# Altium footprint library triac.PCBLIB: 35 footprints (part 2 of 3)
Each footprint in its own frame and in the unit in brackets; x right, y up, seen from the top. Pads: shape width x height; smd on the part's side, far side on the other; paste and mask are expansions set on the pad; w line width, h text height; cw(c..) or ccw(c..) is an arc to the next point about the centre after c.
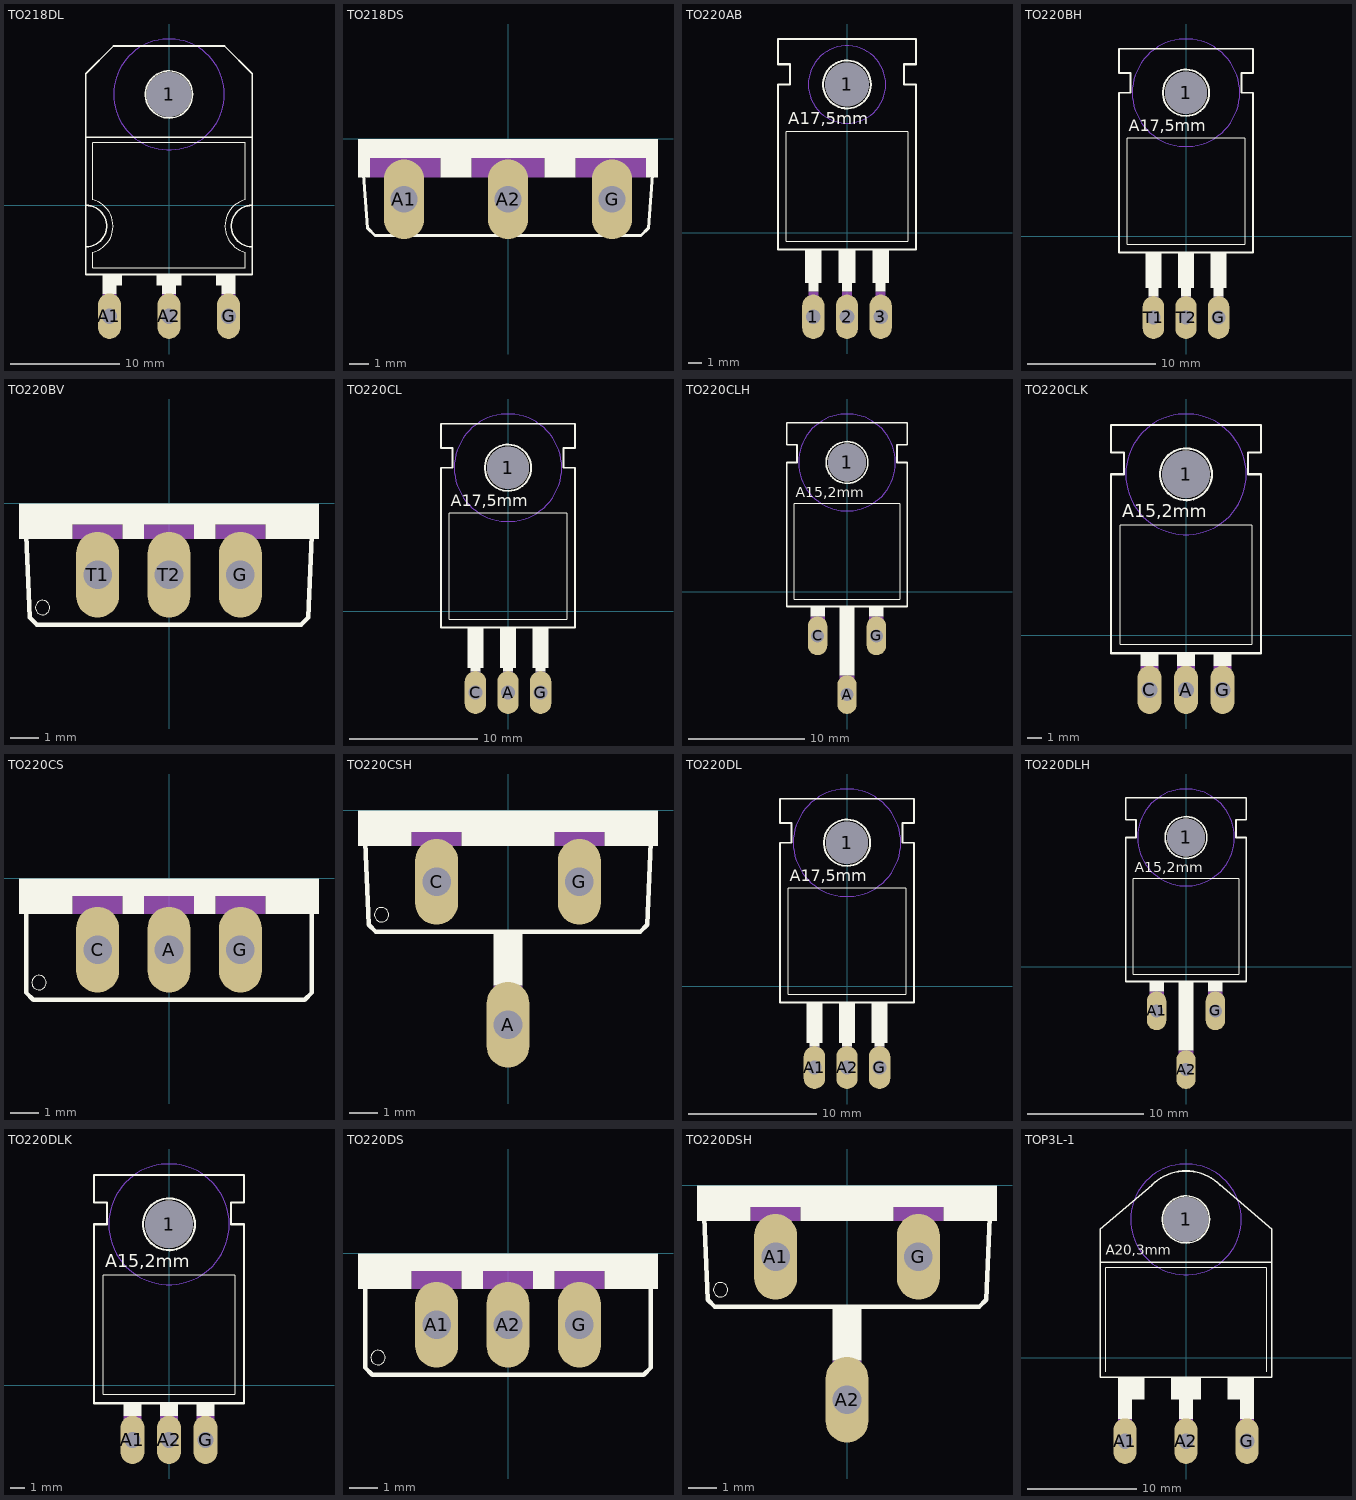
[diagram p1: the footprints below, top view; thin cyan lines are the x and y axes]

## TO218DL [mil]
pads (4):
  round 162 hole 162: 1(0,400)
  oval 82.5x165 hole 55: A1(-215,-400) A2(0,-400) G(215,-400)
Bottom Layer keep-out:
  circle w0: c0,400 r200
Top Overlay:
  circle w6: c0,400 r85
  rectangle: -240,-290 -170,-250
  rectangle: 170,-290 240,-250
  rectangle: -45,-290 45,-250
  rectangle: -240,-320 -190,-250
  rectangle: -25,-320 25,-250
  rectangle: 190,-320 240,-250
  lines w2: 273.71,19.65 ccw(c300,-75) 275,-169.99 275,-225 -275,-225 -275,-170 ccw(c-300,-75) -275,20 -275,225 275,225 275,20
  lines w6: -300,-150 ccw(c-300,-75) -300,0 ; 300,-150 cw(c300,-75) 300,0 ; -300,245 -300,-250 300,-250 300,245 ; -300,245 300,245 ; -300,245 -300,475 -200,575 200,575 300,475 300,245
Mechanical 16:
  rectangle: -240,-405 -190,-320
  rectangle: -25,-405 25,-320
  rectangle: 190,-405 240,-320
Via Holes:
  circle w0: c0,400 r200

## TO218DS [mil]
pads (3):
  oval 82.5x165 hole 55: A1(-215,-125) A2(0,-125) G(215,-125)
Top Overlay:
  rectangle: -310,-40 310,0
  rectangle: -310,-80 -285,-40
  rectangle: -140,-80 -75,-40
  rectangle: 75,-80 140,-40
  rectangle: 285,-80 310,-40
  lines w6: -300,-60 -290,-185 -275,-200 275,-200 290,-185 300,-60
Mechanical 16:
  rectangle: -285,-80 -140,-40
  rectangle: -75,-80 75,-40
  rectangle: 140,-80 285,-40

## TO220AB [mil]
pads (4):
  oval 66x132 hole 44: 1(-100,-250) 2(0,-250) 3(100,-250)
  round 130 hole 130: 1(0,440)
Bottom Layer keep-out:
  circle w0: c0,440 r115
Top Overlay:
  circle w6: c0,440 r71
  rectangle: 85,-175 115,-150
  rectangle: -15,-175 15,-150
  rectangle: -115,-175 -85,-150
  rectangle: -125,-150 -75,-50
  rectangle: -25,-150 25,-50
  rectangle: 75,-150 125,-50
  lines w2: -180,-25 180,-25 180,300 -180,300 -180,-25
  lines w6: -205,-50 205,-50 205,440 170,440 170,500 205,500 205,575 -205,575 -205,500 -170,500 -170,440 -205,440 -205,-50
  text "A17,5mm" at -175,310 h60.45
Mechanical 16:
  rectangle: 85,-250 115,-175
  rectangle: -15,-250 15,-175
  rectangle: -115,-250 -85,-175
Via Holes:
  circle w0: c0,440 r115

## TO220BH [mil]
pads (4):
  round 130 hole 130: 1(0,440)
  oval 66x132 hole 44: G(100,-250) T1(-100,-250) T2(0,-250)
Bottom Layer keep-out:
  circle w0: c0,440 r165
Top Overlay:
  circle w6: c0,440 r71
  rectangle: 85,-185 115,-160
  rectangle: -15,-185 15,-160
  rectangle: -115,-185 -85,-160
  rectangle: -125,-160 -75,-50
  rectangle: -25,-160 25,-50
  rectangle: 75,-160 125,-50
  lines w2: -180,-25 180,-25 180,300 -180,300 -180,-25
  lines w6: -205,-50 205,-50 205,440 170,440 170,500 205,500 205,575 -205,575 -205,500 -170,500 -170,440 -205,440 -205,-50
  text "A17,5mm" at -175,310 h62
Mechanical 16:
  rectangle: -115,-260 -85,-185
  rectangle: -15,-260 15,-185
  rectangle: 85,-260 115,-185
Via Holes:
  circle w0: c0,440 r165

## TO220BV [mil]
pads (3):
  oval 60x120 hole 40: G(100,-100) T1(-100,-100) T2(0,-100)
Top Overlay:
  circle w0: c-177,-146 r10
  rectangle: -210,-30 210,0
  rectangle: -210,-50 -135,-30
  rectangle: -65,-50 -35,-30
  rectangle: 35,-50 65,-30
  rectangle: 135,-50 210,-30
  lines w6: -200,-45 -195,-160 -185,-170 185,-170 195,-160 200,-45
Mechanical 16:
  rectangle: -135,-50 -65,-30
  rectangle: -35,-50 35,-30
  rectangle: 65,-50 135,-30

## TO220CL [mil]
pads (4):
  round 130 hole 130: 1(0,440)
  oval 66x132 hole 44: A(0,-250) C(-100,-250) G(100,-250)
Bottom Layer keep-out:
  circle w0: c0,440 r165
Top Overlay:
  circle w6: c0,440 r71
  rectangle: -25,-175 25,-50
  rectangle: -125,-175 -75,-50
  rectangle: 75,-175 125,-50
  rectangle: -115,-185 -85,-175
  rectangle: -15,-185 15,-175
  rectangle: 85,-185 115,-175
  lines w2: -180,-25 180,-25 180,300 -180,300 -180,-25
  lines w6: -205,-50 205,-50 205,440 170,440 170,500 205,500 205,575 -205,575 -205,500 -170,500 -170,440 -205,440 -205,-50
  text "A17,5mm" at -175,310 h60.45
Mechanical 16:
  rectangle: -115,-255 -85,-185
  rectangle: -15,-255 15,-185
  rectangle: 85,-255 115,-185
Via Holes:
  circle w0: c0,440 r165

## TO220CLH [mil]
pads (4):
  round 130 hole 130: 1(0,440)
  oval 66x132 hole 44: A(0,-350) C(-100,-150) G(100,-150)
Bottom Layer keep-out:
  circle w0: c0,440 r165
Top Overlay:
  circle w6: c0,440 r71
  rectangle: -125,-85 -75,-50
  rectangle: 75,-85 125,-50
  rectangle: -25,-285 25,-50
  lines w2: -180,-25 180,-25 180,300 -180,300 -180,-25
  lines w6: -205,-50 205,-50 205,440 170,440 170,500 205,500 205,575 -205,575 -205,500 -170,500 -170,440 -205,440 -205,-50
  text "A15,2mm" at -175,310 h60.45
Mechanical 16:
  rectangle: -125,-150 -75,-85
  rectangle: -25,-350 25,-285
  rectangle: 75,-150 125,-85
Via Holes:
  circle w0: c0,440 r165

## TO220CLK [mil]
pads (4):
  round 130 hole 130: 1(0,440)
  oval 66x132 hole 44: A(0,-150) C(-100,-150) G(100,-150)
Bottom Layer keep-out:
  circle w0: c0,440 r165
Top Overlay:
  circle w6: c0,440 r71
  rectangle: -125,-85 -75,-50
  rectangle: -25,-85 25,-50
  rectangle: 75,-85 125,-50
  lines w2: -180,-25 180,-25 180,300 -180,300 -180,-25
  lines w6: -205,-50 205,-50 205,440 170,440 170,500 205,500 205,575 -205,575 -205,500 -170,500 -170,440 -205,440 -205,-50
  text "A15,2mm" at -175,310 h60.45
Mechanical 16:
  rectangle: -125,-155 -75,-85
  rectangle: -25,-155 25,-85
  rectangle: 75,-155 125,-85
Via Holes:
  circle w0: c0,440 r165

## TO220CS [mil]
pads (3):
  oval 60x120 hole 40: A(0,-100) C(-100,-100) G(100,-100)
Top Overlay:
  circle w0: c-182,-146 r10
  rectangle: -210,-25 210,0
  rectangle: -210,-50 -135,-25
  rectangle: -65,-50 -35,-25
  rectangle: 35,-50 65,-25
  rectangle: 135,-50 210,-25
  lines w6: -200,-45 -200,-160 -190,-170 190,-170 200,-160 200,-45
Mechanical 16:
  rectangle: -135,-50 -65,-25
  rectangle: -35,-50 35,-25
  rectangle: 65,-50 135,-25

## TO220CSH [mil]
pads (3):
  oval 60x120 hole 40: A(0,-300) C(-100,-100) G(100,-100)
Top Overlay:
  circle w0: c-177,-146 r10
  rectangle: -210,-30 210,0
  rectangle: -210,-50 -135,-30
  rectangle: 135,-50 210,-30
  rectangle: -20,-245 20,-170
  rectangle: -65,-50 65,-30
  lines w6: -200,-45 -195,-160 -185,-170 185,-170 195,-160 200,-45
Mechanical 16:
  rectangle: -135,-50 -65,-30
  rectangle: 65,-50 135,-30
  rectangle: -20,-300 20,-245

## TO220DL [mil]
pads (4):
  round 130 hole 130: 1(0,440)
  oval 66x132 hole 44: A1(-100,-250) A2(0,-250) G(100,-250)
Bottom Layer keep-out:
  circle w0: c0,440 r165
Top Overlay:
  circle w6: c0,440 r71
  rectangle: -25,-175 25,-50
  rectangle: -125,-175 -75,-50
  rectangle: 75,-175 125,-50
  rectangle: -115,-185 -85,-175
  rectangle: -15,-185 15,-175
  rectangle: 85,-185 115,-175
  lines w2: -180,-25 180,-25 180,300 -180,300 -180,-25
  lines w6: -205,-50 205,-50 205,440 170,440 170,500 205,500 205,575 -205,575 -205,500 -170,500 -170,440 -205,440 -205,-50
  text "A17,5mm" at -175,310 h60.45
Mechanical 16:
  rectangle: -115,-255 -85,-185
  rectangle: -15,-255 15,-185
  rectangle: 85,-255 115,-185
Via Holes:
  circle w0: c0,440 r165

## TO220DLH [mil]
pads (4):
  round 130 hole 130: 1(0,440)
  oval 66x132 hole 44: A1(-100,-150) A2(0,-350) G(100,-150)
Bottom Layer keep-out:
  circle w0: c0,440 r165
Top Overlay:
  circle w6: c0,440 r71
  rectangle: -125,-85 -75,-50
  rectangle: 75,-85 125,-50
  rectangle: -25,-285 25,-50
  lines w2: -180,-25 180,-25 180,300 -180,300 -180,-25
  lines w6: -205,-50 205,-50 205,440 170,440 170,500 205,500 205,575 -205,575 -205,500 -170,500 -170,440 -205,440 -205,-50
  text "A15,2mm" at -175,310 h60.45
Mechanical 16:
  rectangle: -125,-150 -75,-85
  rectangle: -25,-350 25,-285
  rectangle: 75,-150 125,-85
Via Holes:
  circle w0: c0,440 r165

## TO220DLK [mil]
pads (4):
  round 130 hole 130: 1(0,440)
  oval 66x132 hole 44: A1(-100,-150) A2(0,-150) G(100,-150)
Bottom Layer keep-out:
  circle w0: c0,440 r165
Top Overlay:
  circle w6: c0,440 r71
  rectangle: -125,-85 -75,-50
  rectangle: -25,-85 25,-50
  rectangle: 75,-85 125,-50
  lines w2: -180,-25 180,-25 180,300 -180,300 -180,-25
  lines w6: -205,-50 205,-50 205,440 170,440 170,500 205,500 205,575 -205,575 -205,500 -170,500 -170,440 -205,440 -205,-50
  text "A15,2mm" at -175,310 h60.45
Mechanical 16:
  rectangle: -125,-150 -75,-85
  rectangle: -25,-150 25,-85
  rectangle: 75,-150 125,-85
Via Holes:
  circle w0: c0,440 r165

## TO220DS [mil]
pads (3):
  oval 60x120 hole 40: A1(-100,-100) A2(0,-100) G(100,-100)
Top Overlay:
  circle w0: c-182,-146 r10
  rectangle: -210,-25 210,0
  rectangle: -210,-50 -135,-25
  rectangle: -65,-50 -35,-25
  rectangle: 35,-50 65,-25
  rectangle: 135,-50 210,-25
  lines w6: -200,-45 -200,-160 -190,-170 190,-170 200,-160 200,-45
Mechanical 16:
  rectangle: -135,-50 -65,-25
  rectangle: -35,-50 35,-25
  rectangle: 65,-50 135,-25

## TO220DSH [mil]
pads (3):
  oval 60x120 hole 40: A1(-100,-100) A2(0,-300) G(100,-100)
Top Overlay:
  circle w0: c-177,-146 r10
  rectangle: -210,-30 210,0
  rectangle: -210,-50 -135,-30
  rectangle: 135,-50 210,-30
  rectangle: -20,-245 20,-170
  rectangle: -65,-50 65,-30
  lines w6: -200,-45 -195,-160 -185,-170 185,-170 195,-160 200,-45
Mechanical 16:
  rectangle: -135,-50 -65,-30
  rectangle: 65,-50 135,-30
  rectangle: -20,-300 20,-245

## TOP3L-1 [mil]
pads (4):
  round 162 hole 162: 1(0,500)
  oval 82.5x165 hole 55: A1(-220,-300) A2(0,-300) G(220,-300)
Bottom Layer keep-out:
  circle w0: c0,500 r200
Top Overlay:
  circle w6: c0,500 r85
  rectangle: -245,-150 -150,-70
  rectangle: -55,-150 55,-70
  rectangle: 150,-150 245,-70
  rectangle: -245,-220 -195,-150
  rectangle: -25,-220 25,-150
  rectangle: 195,-220 245,-150
  lines w2: -290,-50 -290,325 290,325 290,-50
  lines w6: -123.74,623.74 cw(c0.01,500) 0,675 cw(c-0.01,500) 123.74,623.74 ; -123,624 -310,465 -310,345 ; 123,625 310,465 310,345 ; -310,345 -310,-70 310,-70 310,345 ; -310,345 310,345
  text "A20,3mm" at -290,360 h60.45
Mechanical 16:
  rectangle: -245,-300 -195,-220
  rectangle: -25,-300 25,-220
  rectangle: 195,-300 245,-220
Via Holes:
  circle w0: c0,500 r200